# EAGLE library part ST485BDR (library ST Microelectronics)
Transceiver
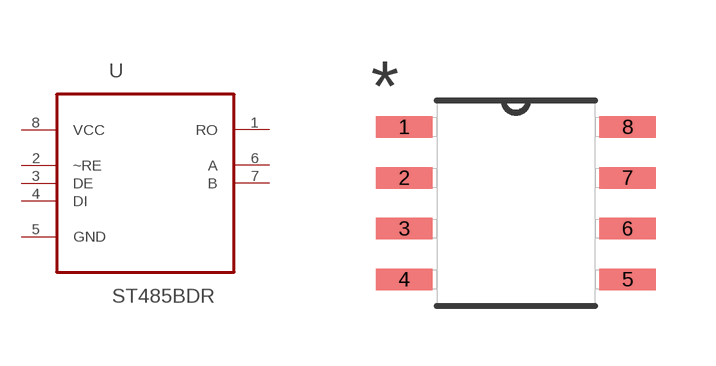
[diagram p304: symbol with the pads of SOIC127P600X175-8N; footprint SOIC127P600X175-8N]

Designator prefix U

## ST485BDR (MPN: ST485BDR; OC_FARNELL: 1564306; OC_NEWARK: 89K1004; PACKAGE: SOIC-8; SUPPLIER: STMICROELECTRONICS)  [SOIC127P600X175-8N]
1  RO  out
2  ~RE  in
3  DE  in
4  DI  in
5  GND  pas
6  A
7  B
8  VCC  pwr

## Footprint SOIC127P600X175-8N (pad centres in mm)
smd 1.422 x 0.533: 1 -2.794,1.905; 2 -2.794,0.635; 3 -2.794,-0.635; 4 -2.794,-1.905; 5 2.794,-1.905; 6 2.794,-0.635; 7 2.794,0.635; 8 2.794,1.905